# EAGLE library part 15POSD-SUBSLDR (library CPSS_CONNECTOR)
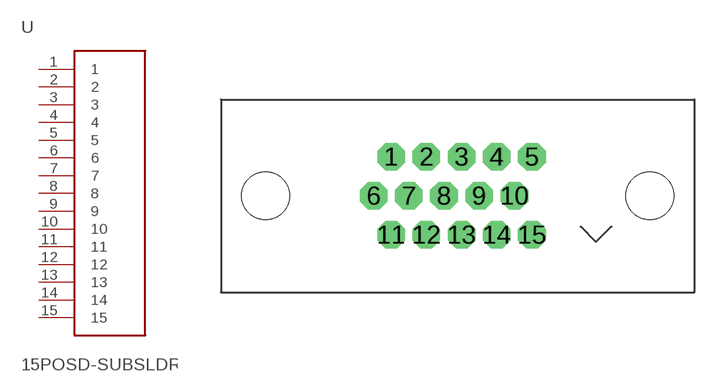
[diagram p3: symbol with the pads of 15POS-DSUBSLDR; footprint 15POS-DSUBSLDR]

Designator prefix -

## 15POSD-SUBSLDR  [15POS-DSUBSLDR]
1  1
2  2
3  3
4  4
5  5
6  6
7  7
8  8
9  9
10  10
11  11
12  12
13  13
14  14
15  15

## Footprint 15POS-DSUBSLDR (pad centres in mm)
drill 1.2 pad 1.5 octagon: 1 -4.33,2.54; 2 -2.04,2.54; 3 0.25,2.54; 4 2.54,2.54; 5 4.83,2.54; 6 -5.47,0; 7 -3.18,0; 8 -0.89,0; 9 1.4,0; 10 3.69,0; 11 -4.33,-2.54; 12 -2.04,-2.54; 13 0.25,-2.54; 14 2.54,-2.54; 15 4.83,-2.54
hole 3.1 at -12.495,0
hole 3.1 at 12.495,0